# EAGLE library part MAX31856MUD+ (library MAX31856)
None
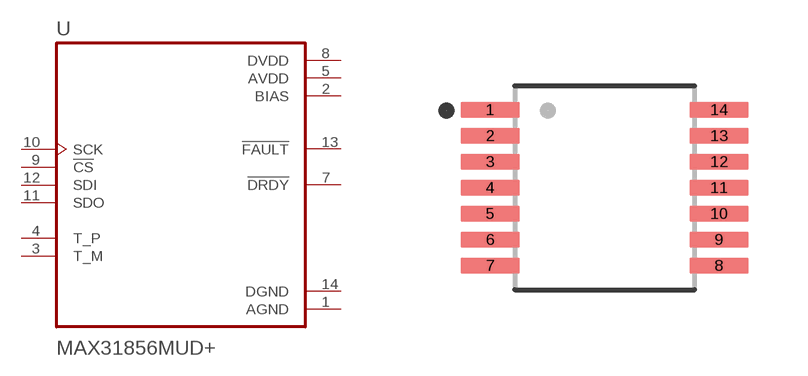
[diagram p0: symbol with the pads of SOP65P640X110-14N; footprint SOP65P640X110-14N]

Designator prefix U

## MAX31856MUD+ (Description: IC CONV THERMOCOUPLE 14TSSOP; Digi-Key_Part_Number: MAX31856MUD+TTR-ND; MF: Maxim Integrated; MP: MAX31856MUD+; Package: TSSOP-14 Maxim)  [SOP65P640X110-14N]
1  AGND  pwr
2  BIAS  pwr
3  T_M  in
4  T_P  in
5  AVDD  pwr
7  !DRDY  out
8  DVDD  pwr
9  !CS  in
10  SCK  in
11  SDO  out
12  SDI  in
13  !FAULT  out
14  DGND  pwr

## Footprint SOP65P640X110-14N (pad centres in mm)
smd 1.48 x 0.41: 1 -2.865,1.95; 2 -2.865,1.3; 3 -2.865,0.65; 4 -2.865,0; 5 -2.865,-0.65; 6 -2.865,-1.3; 7 -2.865,-1.95; 8 2.865,-1.95; 9 2.865,-1.3; 10 2.865,-0.65; 11 2.865,0; 12 2.865,0.65; 13 2.865,1.3; 14 2.865,1.95